# Altium schematic symbol library SCH - DRIVER - LED - TI LM3414_DDA_8.SchLib: 1 symbol
Pins are listed as number, name and electrical type; pins without a type are passive.

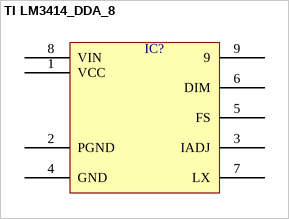
[diagram p0: symbol TI LM3414_DDA_8]

## TI LM3414_DDA_8
designator IC?  (value not drawn)
pins: 1 VCC, 2 PGND, 3 IADJ, 4 GND, 5 FS, 6 DIM, 7 LX, 8 VIN, 9